# EAGLE library part ATMEGA8L (library ATmega8L)
Mega8L ATmega8, Mega8, 32A, 32-lead, 7 x 7mm body size, 1.0mm body thickness, 0.9mm lead pitch, thin profile plastic quad flat package (TQFP)
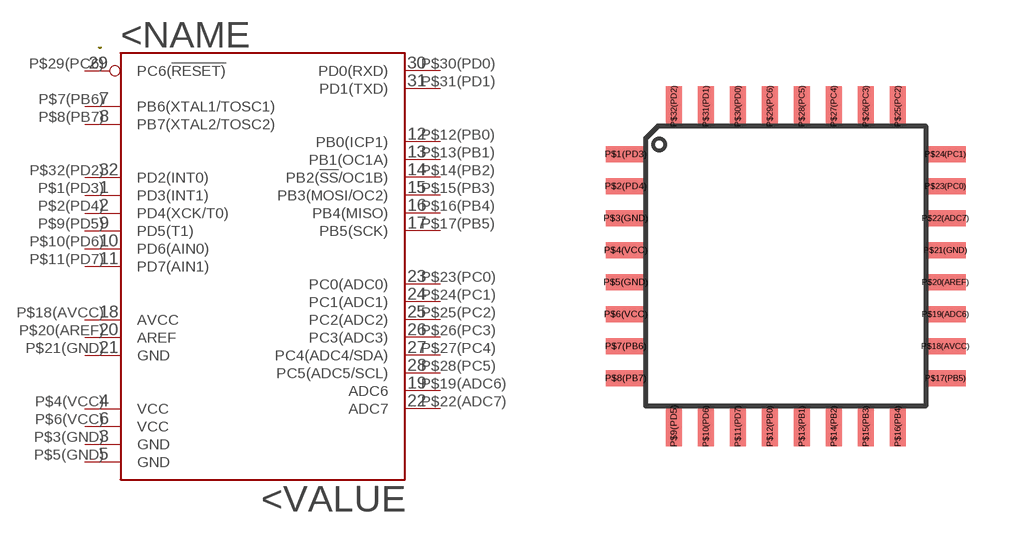
[diagram p0: symbol with the pads of MEGA8L(TQFP); footprint MEGA8L(TQFP)]

Designator prefix -

## ATMEGA8L  [MEGA8L(TQFP)]
P$1(PD3)  PD3(INT1)
P$2(PD4)  PD4(XCK/T0)
P$3(GND)  GND
P$4(VCC)  VCC
P$5(GND)  GND
P$6(VCC)  VCC
P$7(PB6)  PB6(XTAL1/TOSC1)
P$8(PB7)  PB7(XTAL2/TOSC2)
P$9(PD5)  PD5(T1)
P$10(PD6)  PD6(AIN0)
P$11(PD7)  PD7(AIN1)
P$12(PB0)  PB0(ICP1)
P$13(PB1)  PB1(OC1A)
P$14(PB2)  PB2(!SS!/OC1B)
P$15(PB3)  PB3(MOSI/OC2)
P$16(PB4)  PB4(MISO)
P$17(PB5)  PB5(SCK)
P$18(AVCC)  AVCC
P$19(ADC6)  ADC6
P$20(AREF)  AREF
P$21(GND)  GND
P$22(ADC7)  ADC7
P$23(PC0)  PC0(ADC0)
P$24(PC1)  PC1(ADC1)
P$25(PC2)  PC2(ADC2)
P$26(PC3)  PC3(ADC3)
P$27(PC4)  PC4(ADC4/SDA)
P$28(PC5)  PC5(ADC5/SCL)
P$29(PC6)  PC6(!RESET)
P$30(PD0)  PD0(RXD)
P$31(PD1)  PD1(TXD)
P$32(PD2)  PD2(INT0)

## Footprint MEGA8L(TQFP) (pad centres in mm)
smd 1 x 0.4: P$1(PD3) -4.04,2.76; P$2(PD4) -4.04,1.96; P$3(GND) -4.04,1.16; P$4(VCC) -4.04,0.36; P$5(GND) -4.04,-0.44; P$6(VCC) -4.04,-1.24; P$7(PB6) -4.04,-2.04; P$8(PB7) -4.04,-2.84; P$17(PB5) 3.96,-2.84; P$18(AVCC) 3.96,-2.04; P$19(ADC6) 3.96,-1.24; P$20(AREF) 3.96,-0.44; P$21(GND) 3.96,0.36; P$22(ADC7) 3.96,1.16; P$23(PC0) 3.96,1.96; P$24(PC1) 3.96,2.76
smd 0.4 x 1: P$9(PD5) -2.84,-4.04; P$10(PD6) -2.04,-4.04; P$11(PD7) -1.24,-4.04; P$12(PB0) -0.44,-4.04; P$13(PB1) 0.36,-4.04; P$14(PB2) 1.16,-4.04; P$15(PB3) 1.96,-4.04; P$16(PB4) 2.76,-4.04; P$25(PC2) 2.76,3.96; P$26(PC3) 1.96,3.96; P$27(PC4) 1.16,3.96; P$28(PC5) 0.36,3.96; P$29(PC6) -0.44,3.96; P$30(PD0) -1.24,3.96; P$31(PD1) -2.04,3.96; P$32(PD2) -2.84,3.96